# EAGLE library part MN3101 (library _mtvl_ic)
MN3101 Clock Generator / Driver for BBD's
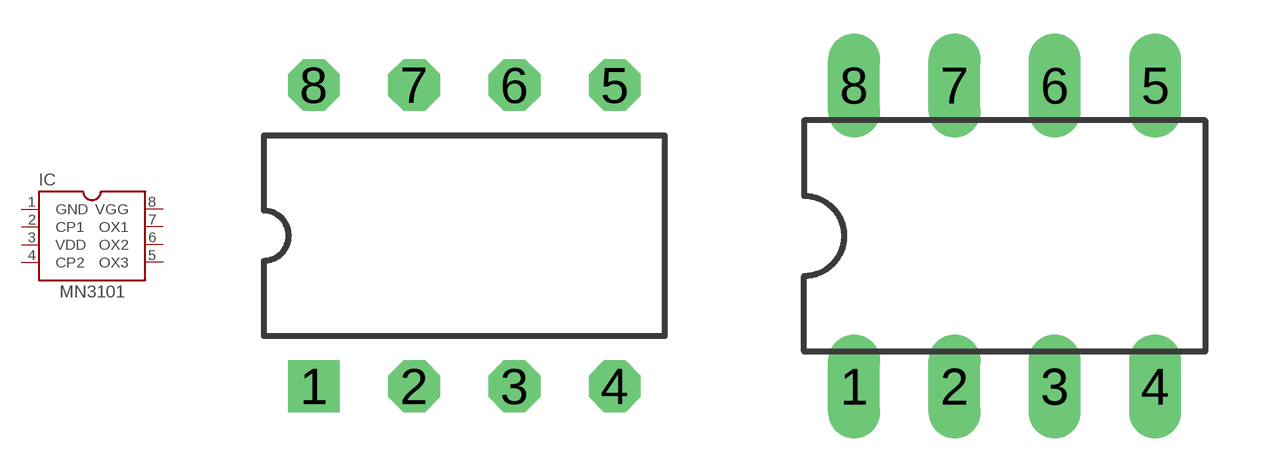
[diagram p56: symbol with the pads of DIL08_; footprints DIL08_, DIL-08]

Designator prefix IC

## MN3101  [DIL08_]
1  GND  sup
2  CP1  out
3  VDD  sup
4  CP2  out
5  OX3
6  OX2
7  OX1
8  VGG  sup

## MN3101-L  [DIL-08]
Pads as for DIL08_

## Footprint DIL08_ (pad centres in mm)
Dual In Line package type P
drill 0.8 square: 1 -3.81,-3.81
drill 0.8 octagon: 2 -1.27,-3.81; 3 1.27,-3.81; 4 3.81,-3.81; 5 3.81,3.81; 6 1.27,3.81; 7 -1.27,3.81; 8 -3.81,3.81

## Footprint DIL-08 (pad centres in mm)
Dual In Line Package
drill 0.813 long: 1 -3.81,-3.81; 2 -1.27,-3.81; 3 1.27,-3.81; 4 3.81,-3.81; 5 3.81,3.81; 6 1.27,3.81; 7 -1.27,3.81; 8 -3.81,3.81